# EAGLE library part KSZ8041FTL (library NBitWonder)
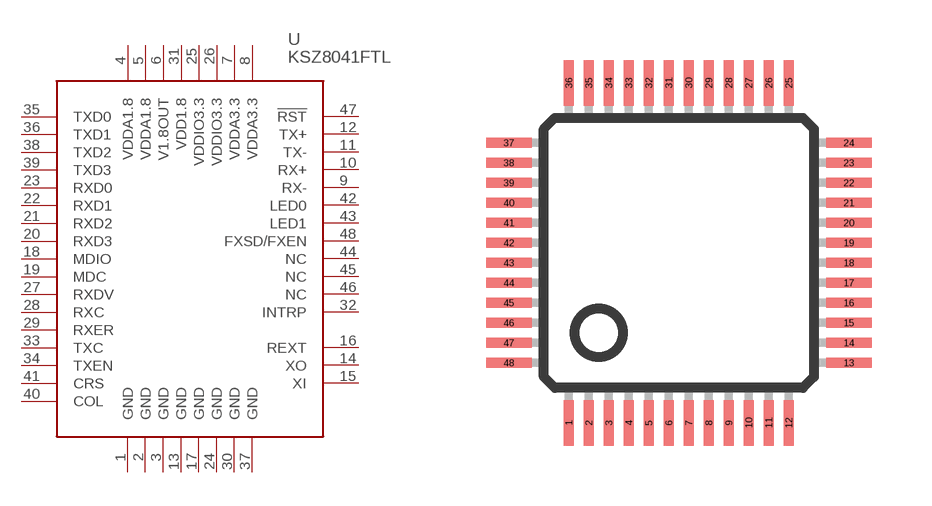
[diagram p12: symbol with the pads of LQFP-48; footprint LQFP-48]

Designator prefix -

## KSZ8041FTL  [LQFP-48]
1  GND  pwr
2  GND  pwr
3  GND  pwr
4  VDDA1.8  pwr
5  VDDA1.8  pwr
6  V1.8OUT  pwr
7  VDDA3.3  pwr
8  VDDA3.3  pwr
9  RX-
10  RX+
11  TX-
12  TX+
13  GND  pwr
14  XO
15  XI
16  REXT
17  GND  pwr
18  MDIO
19  MDC
20  RXD3
21  RXD2
22  RXD1
23  RXD0
24  GND  pwr
25  VDDIO3.3  pwr
26  VDDIO3.3  pwr
27  RXDV
28  RXC
29  RXER
30  GND  pwr
31  VDD1.8  pwr
32  INTRP
33  TXC
34  TXEN
35  TXD0
36  TXD1
37  GND  pwr
38  TXD2
39  TXD3
40  COL
41  CRS
42  LED0
43  LED1
44  NC
45  NC
46  NC
47  !RST
48  FXSD/FXEN

## Footprint LQFP-48 (pad centres in mm)
smd 0.254 x 1.143: 1 -2.75,-4.25; 2 -2.25,-4.25; 3 -1.75,-4.25; 4 -1.25,-4.25; 5 -0.75,-4.25; 6 -0.25,-4.25; 7 0.25,-4.25; 8 0.75,-4.25; 9 1.25,-4.25; 10 1.75,-4.25; 11 2.25,-4.25; 12 2.75,-4.25; 25 2.75,4.25; 26 2.25,4.25; 27 1.75,4.25; 28 1.25,4.25; 29 0.75,4.25; 30 0.25,4.25; 31 -0.25,4.25; 32 -0.75,4.25; 33 -1.25,4.25; 34 -1.75,4.25; 35 -2.25,4.25; 36 -2.75,4.25
smd 1.143 x 0.254: 13 4.25,-2.75; 14 4.25,-2.25; 15 4.25,-1.75; 16 4.25,-1.25; 17 4.25,-0.75; 18 4.25,-0.25; 19 4.25,0.25; 20 4.25,0.75; 21 4.25,1.25; 22 4.25,1.75; 23 4.25,2.25; 24 4.25,2.75; 37 -4.25,2.75; 38 -4.25,2.25; 39 -4.25,1.75; 40 -4.25,1.25; 41 -4.25,0.75; 42 -4.25,0.25; 43 -4.25,-0.25; 44 -4.25,-0.75; 45 -4.25,-1.25; 46 -4.25,-1.75; 47 -4.25,-2.25; 48 -4.25,-2.75